# Altium integrated library ON Semi Signal Management Smart Card & SIM Card Interfaces.IntLib: 14 symbols (part 2 of 2)
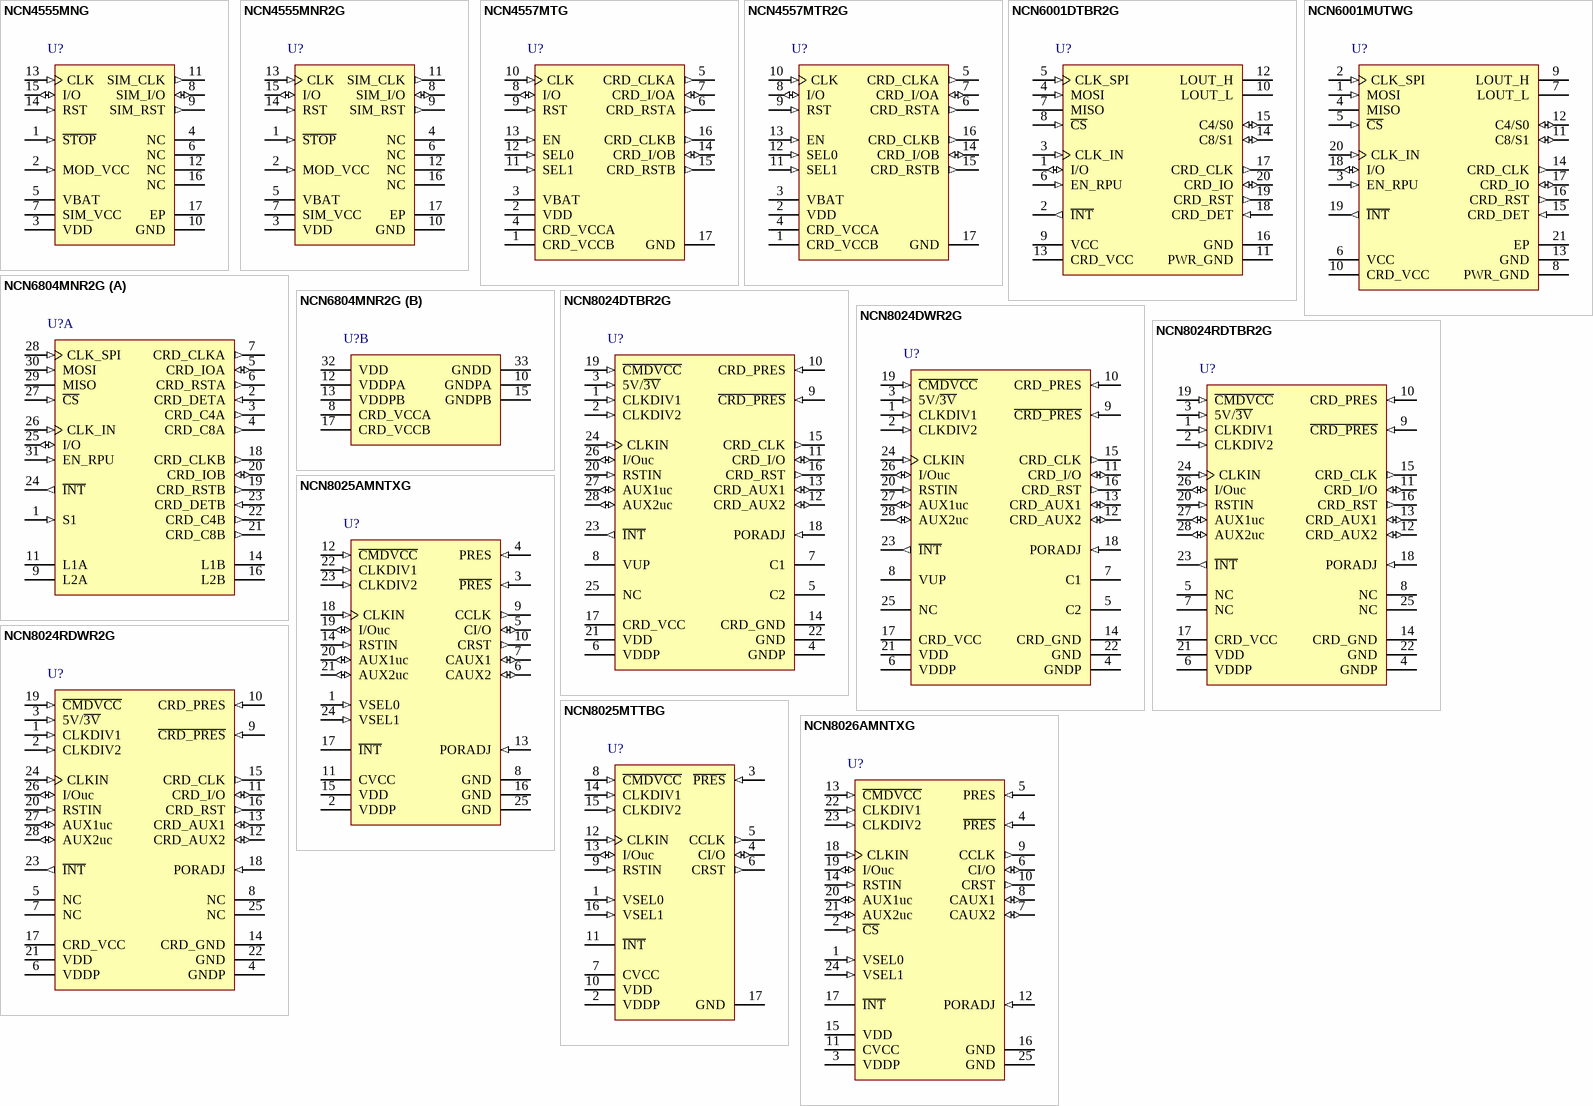
[diagram p1: symbols NCN4555MNG to NCN8026AMNTXG]

## NCN8024DWR2G
designator U?
Smart Card Interface IC, 2.7 to 5.5 V, -40 to 85 degC, 28-Pin SOIC, Pb-Free, Tape and Reel; Manufacturer: On Semiconductor; PartNumber: NCN8024DWR2G; fClock Max (MHz): 18; VCC Max (V): 5.5; VCC Min (V): 2.7; DatasheetVersion: Rev. 4; PackageVersion: Rev. H, 06/2007; PackageReference: SOIC-28-751F-05; PackageDescription: 28-Pin Small Outline Integrated Circuit, Body 17.925 x 7.5 mm, Pitch 1.27 mm; Supplier 1: Digi-Key; Supplier Part Number 1: NCN8024DWR2GOSTR-ND; Supplier 2: Digi-Key; Supplier Part Number 2: NCN8024DWR2GOSCT-ND; Supplier 3: Digi-Key; Supplier Part Number 3: NCN8024DWR2GOSDKR-ND; Supplier 4: Mouser; Supplier Part Number 4: 863-NCN8024DWR2G; Packing: Tape and Reel; RoHS: TRUE; Mounting Technology: Surface Mount; ComponentLink1Description: Manufacturer URL; ComponentLink1URL: http://www.onsemi.com/; ComponentLink2Description: Datasheet; ComponentLink2URL: http://www.onsemi.cn/pub_link/Collateral/NCN8024-D.PDF; ComponentLink3Description: Package Specification; ComponentLink3URL: http://www.onsemi.cn/pub_link/Collateral/751F-05.PDF
footprint ONSC-SOIC-28-751F-05_V (SOIC, 28-Leads, Body 18.1x7.6mm, Pitch 1.27mm)
pins: 1 CLKDIV1 (in) "This pin coupled with CLKDIV2 is used to program the clock frequency division ratio.", 2 CLKDIV2 (in) "This pin coupled with CLKDIV2 is used to program the clock frequency division ratio.", 3 5V/~{3V} (in) "Allows selecting card VCC power supply voltage. CRD_VCC = 5 V when 5V/3\V\ = HIGH or 3 V when 5V/3\V\ = LOW", 4 GNDP (power) "DC/DC Converter Power Supply Ground", 5 C2 "DC/DC Converter Capacitor pin number 2 - A 100 nF capacitor is connected between this pin and pin C1. The capacitor has to feature an ESR lower than 100 mohm", 6 VDDP (power) "DC/DC Converter Power Supply Voltage", 7 C1 "DC/DC Converter Capacitor pin number 1 - A 100 nF capacitor is connected between this pin and pin C2. The capacitor has to feature an ESR lower than 100 mohm", 8 VUP (power) "Charge-pump output - a very low ESR 100 nF capacitor (ESR< 100 mohm) is connected between this pin and GNDP", 9 ~{CRD_PRES} (in) "Card presence pin active (card present) when C\R\D\_\P\R\E\S\ = Low. A built-in debounce timer of about 8 ms is activated when a card is inserted.", 10 CRD_PRES (in) "Card presence pin active (card present) when CRD_PRES = High. A built-in debounce timer of about 8 ms is activated when a card is inserted.", 11 CRD_I/O (io) "This pin handles the connection to the serial I/O (C7) of the card connector. A bi-directional level translator adapts the serial I/O signal between the card and the micro controller. An 11 kohm (typical) pullup resistor to (See Datasheet)", 12 CRD_AUX2 (io) "This pin handles the connection to the chip card’s serial auxiliary AUX2 I/O pin (C8). A bi-directional level translator adapts the serial I/O signal between the card and the micro controller. An 11 kohm (typical) pullu(See Datasheet)", 13 CRD_AUX1 (io) "This pin handles the connection to the chip card’s serial auxiliary AUX1 I/O pin (C4). A bi-directional level translator adapts the serial I/O signal between the card and the micro controller. An 11 kohm (typical) pullu(See Datasheet)", 14 CRD_GND (power) "Card Ground", 15 CRD_CLK (out) "This pin is connected to the CLOCK card connector’s pin (Chip card’s pin C3). The Clock signal comes from the CLKIN input through clock dividers and level shifter.", 16 CRD_RST (out) "This pin is connected to the chip card’s RESET pin (C2) through the card connector. A level translator adapts the external Reset (RSTIN) signal to the smart card.", 17 CRD_VCC (power) "This pin is connected to the smart card power supply pin. An internal DC/DC converter is programmable using the pin 5V/3\V\ to supply either 5 V or 3 V output voltage. An external distributed ceramic capacitor (200 nF + 330 (See Datasheet)", 18 PORADJ (in) "Power-on reset threshold adjustment input pin for changing the reset threshold with an external resistor power divider. Recommended to be connected to ground when unused.", 19 ~{CMDVCC} (in) "Command VCC pin. Activation sequence Enable/Disable pin (active Low). The activation sequence is enabled by toggling C\M\D\V\C\C\ High to Low and when a card is present.", 20 RSTIN (in) "This Reset input connected to the host and referred to VDD (microcontroller side), is connected to the smart card Reset pin through the internal level shifter which translates the level according to the CRD_VCC programmed (See Datasheet)", 21 VDD (power) "This pin is connected to the system controller power supply. It configures the level shifter input stage to accept the signals coming from the controller. A 0.1 uF capacitor shall be used to bypass the power supply voltage. (See Datasheet)", 22 GND (power) "Ground", 23 ~{INT} (out) "The interrupt request is activated LOW on this pin. This is enabled when a card is present and the card presence is detected by CRD_PRES or C\R\D\_\P\R\E\S\ pins. Similarly an interrupt is generated when CRD_VCC is (See Datasheet)", 24 CLKIN (in) "Clock Input for External Clock", 25 NC "Unconnected", 26 I/Ouc (io) "This pin is connected to an external micro-controller. A bi-directional level translator adapts the serial I/O signal between the smart card and the external controller. A built-in constant 11 kohm (typical) resistor (See Datasheet)", 27 AUX1uc (io) "This pin is connected to an external micro-controller. A bi-directional level translator adapts the serial C4 signal between the smart card and the external controller. A built-in constant 11 kohm (typical) resistor provides (See Datasheet)", 28 AUX2uc (io) "This pin is connected to an external micro-controller. A bi-directional level translator adapts the serial C8 signal between the smart card and the external controller. A built-in constant 11 kohm (typical) resistor provides (See Datasheet)"

## NCN8024RDTBR2G
designator U?
Smart Card Interface IC, 2.7 to 5.5 V, -40 to 85 degC, 28-Pin TSSOP, Pb-Free, Tape and Reel; Manufacturer: On Semiconductor; PartNumber: NCN8024RDTBR2G; fClock Max (MHz): 27; VCC Max (V): 5.5; VCC Min (V): 2.7; DatasheetVersion: Rev. 1; PackageVersion: Rev. A, 10/2011; PackageReference: TSSOP-28-948AA; PackageDescription: 28-Pin Small Outline Package, Body 9.7 x 4.4 mm, Pitch 0.65 mm; Packing: Tape and Reel; RoHS: TRUE; Mounting Technology: Surface Mount; ComponentLink1Description: Manufacturer URL; ComponentLink1URL: http://www.onsemi.com/; ComponentLink2Description: Datasheet; ComponentLink2URL: http://www.onsemi.cn/pub_link/Collateral/NCN8024R-D.PDF; ComponentLink3Description: Package Specification; ComponentLink3URL: http://www.onsemi.cn/pub_link/Collateral/948AA.PDF
footprint ONSC-TSSOP-28-948AA_V (SOP, 28-Leads, Body 9.8x4.5mm, Pitch 0.65mm)
pins: 1 CLKDIV1 (in) "This pin coupled with CLKDIV2 is used to program the clock frequency division ratio", 2 CLKDIV2 (in) "This pin coupled with CLKDIV1 is used to program the clock frequency division ratio", 3 5V/~{3V} (in) "Allows selecting card VCC power supply voltage. CRD_VCC = 5 V when 5V/3\V\ = HIGH or 3 V when 5V/3\V\ = LOW", 4 GNDP (power) "Regulator Power Supply Ground", 5 NC "Not Connected", 6 VDDP (power) "Regulator Power Supply", 7 NC "Not Connected", 8 NC "Not Connected", 9 ~{CRD_PRES} (in) "Card presence pin active (card present) when CRD_PRES = Low. A built-in debounce timer of about 8 ms is activated when a card is inserted. Convenient for Normally Open (NO) smart card connector.", 10 CRD_PRES (in) "Card presence pin active (card present) when CRD_PRES = High. A built-in debounce timer of about 8 ms is activated when a card is inserted. Convenient for Normally Closed (NC) smart card connector.", 11 CRD_I/O (io) "This pin handles the connection to the serial I/O (C7) of the card connector. A bi-directional level translator adapts the serial I/O signal between the card and the micro controller. An 11 kohm (typical) pullup resistor to (See Datasheet)", 12 CRD_AUX2 (io) "This pin handles the connection to the chip card’s serial auxiliary AUX2 I/O pin (C8). A bi-directional level translator adapts the serial I/O signal between the card and the micro controller. An 11 kohm (typical) pullu(See Datasheet)", 13 CRD_AUX1 (io) "This pin handles the connection to the chip card’s serial auxiliary AUX1 I/O pin (C4). A bi-directional level translator adapts the serial I/O signal between the card and the micro controller. An 11 kohm (typical) pullu(See Datasheet)", 14 CRD_GND (power) "Card Ground", 15 CRD_CLK (out) "This pin is connected to the CLOCK card connector’s pin (Chip card’s pin C3). The Clock signal comes from the CLKIN input through clock dividers and level shifter.", 16 CRD_RST (out) "This pin is connected to the chip card’s RESET pin (C2) through the card connector. A level translator adapts the external Reset (RSTIN) signal to the smart card.", 17 CRD_VCC (power) "This pin is connected to the smart card power supply pin. An internal DC/DC converter is programmable using the pin 5V/3\V\ to supply either 5 V or 3 V output voltage. An external distributed ceramic capacitor ranging from (See Datasheet)", 18 PORADJ (in) "Power-on reset threshold adjustment input pin for changing the reset threshold with an external resistor power divider. Recommended to be connected to ground when unused.", 19 ~{CMDVCC} (in) "Command VCC pin. Activation sequence Enable/Disable pin (active Low). The activation sequence is enabled by toggling C\M\D\V\C\C\ High to Low and when a card is present.", 20 RSTIN (in) "This Reset input connected to the host and referred to VDD (microcontroller side), is connected to the smart card Reset pin through the internal level shifter which translates the level according to the CRD_VCC programmed (See Datasheet)", 21 VDD (power) "This pin is connected to the system controller power supply. It configures the level shifter input stage to accept the signals coming from the controller. A 0.1 uF capacitor shall be used to bypass the power supply voltage. (See Datasheet)", 22 GND (power) "Ground", 23 ~{INT} (out) "The interrupt request is activated LOW on this pin. This is enabled when a card is present and the card presence is detected by CRD_PRES or C\R\D\_\P\R\E\S\ pins. Similarly an interrupt is generated when CRD_VCC is (See Datasheet)", 24 CLKIN (in) "Clock Input for External Clock", 25 NC "Not Connected", 26 I/Ouc (io) "This pin is connected to an external micro-controller. A bi-directional level translator adapts the serial I/O signal between the smart card and the external controller. A built-in constant 11 kohm (typical) resistor (See Datasheet)", 27 AUX1uc (io) "This pin is connected to an external micro-controller. A bi-directional level translator adapts the serial C4 signal between the smart card and the external controller. A built-in constant 11 kohm (typical) resistor provides (See Datasheet)", 28 AUX2uc (io) "This pin is connected to an external micro-controller. A bi-directional level translator adapts the serial C8 signal between the smart card and the external controller. A built-in constant 11 kohm (typical) resistor provides (See Datasheet)"

## NCN8024RDWR2G
designator U?
Smart Card Interface IC, 2.7 to 5.5 V, -40 to 85 degC, 28-Pin SOIC, Pb-Free, Tape and Reel; Manufacturer: On Semiconductor; PartNumber: NCN8024RDWR2G; fClock Max (MHz): 27; VCC Max (V): 5.5; VCC Min (V): 2.7; DatasheetVersion: Rev. 1; PackageVersion: Rev. H, 06/2007; PackageReference: SOIC-28-751F-05; PackageDescription: 28-Pin Small Outline Integrated Circuit, Body 17.925 x 7.5 mm, Pitch 1.27 mm; Supplier 1: Digi-Key; Supplier Part Number 1: NCN8024RDWR2G-ND; Supplier 2: Mouser; Supplier Part Number 2: 863-NCN8024RDWR2G; Packing: Tape and Reel; RoHS: TRUE; Mounting Technology: Surface Mount; ComponentLink1Description: Manufacturer URL; ComponentLink1URL: http://www.onsemi.com/; ComponentLink2Description: Datasheet; ComponentLink2URL: http://www.onsemi.cn/pub_link/Collateral/NCN8024R-D.PDF; ComponentLink3Description: Package Specification; ComponentLink3URL: http://www.onsemi.cn/pub_link/Collateral/751F-05.PDF
footprint ONSC-SOIC-28-751F-05_V (SOIC, 28-Leads, Body 18.1x7.6mm, Pitch 1.27mm)
pins: 1 CLKDIV1 (in) "This pin coupled with CLKDIV2 is used to program the clock frequency division ratio", 2 CLKDIV2 (in) "This pin coupled with CLKDIV1 is used to program the clock frequency division ratio", 3 5V/~{3V} (in) "Allows selecting card VCC power supply voltage. CRD_VCC = 5 V when 5V/3\V\ = HIGH or 3 V when 5V/3\V\ = LOW", 4 GNDP (power) "Regulator Power Supply Ground", 5 NC "Not Connected", 6 VDDP (power) "Regulator Power Supply", 7 NC "Not Connected", 8 NC "Not Connected", 9 ~{CRD_PRES} (in) "Card presence pin active (card present) when CRD_PRES = Low. A built-in debounce timer of about 8 ms is activated when a card is inserted. Convenient for Normally Open (NO) smart card connector.", 10 CRD_PRES (in) "Card presence pin active (card present) when CRD_PRES = High. A built-in debounce timer of about 8 ms is activated when a card is inserted. Convenient for Normally Closed (NC) smart card connector.", 11 CRD_I/O (io) "This pin handles the connection to the serial I/O (C7) of the card connector. A bi-directional level translator adapts the serial I/O signal between the card and the micro controller. An 11 kohm (typical) pullup resistor to (See Datasheet)", 12 CRD_AUX2 (io) "This pin handles the connection to the chip card’s serial auxiliary AUX2 I/O pin (C8). A bi-directional level translator adapts the serial I/O signal between the card and the micro controller. An 11 kohm (typical) pullu(See Datasheet)", 13 CRD_AUX1 (io) "This pin handles the connection to the chip card’s serial auxiliary AUX1 I/O pin (C4). A bi-directional level translator adapts the serial I/O signal between the card and the micro controller. An 11 kohm (typical) pullu(See Datasheet)", 14 CRD_GND (power) "Card Ground", 15 CRD_CLK (out) "This pin is connected to the CLOCK card connector’s pin (Chip card’s pin C3). The Clock signal comes from the CLKIN input through clock dividers and level shifter.", 16 CRD_RST (out) "This pin is connected to the chip card’s RESET pin (C2) through the card connector. A level translator adapts the external Reset (RSTIN) signal to the smart card.", 17 CRD_VCC (power) "This pin is connected to the smart card power supply pin. An internal DC/DC converter is programmable using the pin 5V/3\V\ to supply either 5 V or 3 V output voltage. An external distributed ceramic capacitor ranging from (See Datasheet)", 18 PORADJ (in) "Power-on reset threshold adjustment input pin for changing the reset threshold with an external resistor power divider. Recommended to be connected to ground when unused.", 19 ~{CMDVCC} (in) "Command VCC pin. Activation sequence Enable/Disable pin (active Low). The activation sequence is enabled by toggling C\M\D\V\C\C\ High to Low and when a card is present.", 20 RSTIN (in) "This Reset input connected to the host and referred to VDD (microcontroller side), is connected to the smart card Reset pin through the internal level shifter which translates the level according to the CRD_VCC programmed (See Datasheet)", 21 VDD (power) "This pin is connected to the system controller power supply. It configures the level shifter input stage to accept the signals coming from the controller. A 0.1 uF capacitor shall be used to bypass the power supply voltage. (See Datasheet)", 22 GND (power) "Ground", 23 ~{INT} (out) "The interrupt request is activated LOW on this pin. This is enabled when a card is present and the card presence is detected by CRD_PRES or C\R\D\_\P\R\E\S\ pins. Similarly an interrupt is generated when CRD_VCC is (See Datasheet)", 24 CLKIN (in) "Clock Input for External Clock", 25 NC "Not Connected", 26 I/Ouc (io) "This pin is connected to an external micro-controller. A bi-directional level translator adapts the serial I/O signal between the smart card and the external controller. A built-in constant 11 kohm (typical) resistor (See Datasheet)", 27 AUX1uc (io) "This pin is connected to an external micro-controller. A bi-directional level translator adapts the serial C4 signal between the smart card and the external controller. A built-in constant 11 kohm (typical) resistor provides (See Datasheet)", 28 AUX2uc (io) "This pin is connected to an external micro-controller. A bi-directional level translator adapts the serial C8 signal between the smart card and the external controller. A built-in constant 11 kohm (typical) resistor provides (See Datasheet)"

## NCN8025AMNTXG
designator U?
Compact Smart Card Interface IC, 2.7 to 5.5 V, -40 to 85 degC, 24-Pin QFN, Pb-Free, Tape and Reel; Manufacturer: On Semiconductor; PartNumber: NCN8025AMNTXG; fClock Max (MHz): 27; VCC Max (V): 5.5; VCC Min (V): 2.7; DatasheetVersion: Rev. 4; PackageVersion: Rev. A, 07/2008; PackageReference: QFN-24-485L-01_A; PackageDescription: 24-Pin Quad Flat No-Lead, Body 4 x 4 mm, Pitch 0.5 mm; Supplier 1: Digi-Key; Supplier Part Number 1: NCN8025AMNTXGOSTR-ND; Supplier 2: Digi-Key; Supplier Part Number 2: NCN8025AMNTXGOSCT-ND; Supplier 3: Digi-Key; Supplier Part Number 3: NCN8025AMNTXGOSDKR-ND; Supplier 4: Mouser; Supplier Part Number 4: 863-NCN8025AMNTXG; Packing: Tape and Reel; RoHS: TRUE; Mounting Technology: Surface Mount; ComponentLink1Description: Manufacturer URL; ComponentLink1URL: http://www.onsemi.com/; ComponentLink2Description: Datasheet; ComponentLink2URL: http://www.onsemi.cn/pub_link/Collateral/NCN8025-D.PDF; ComponentLink3Description: Package Specification; ComponentLink3URL: http://www.onsemi.com/pub_link/Collateral/NB6L295-D.PDF
footprint ONSC-QFN-24-485L-01_A_N (QFN, 24-Leads, Body 4x4mm, Pitch 0.5mm, Thermal Pad 2.8x2.8mm, IPC Medium Density)
footprint ONSC-QFN-24-485L-01_A_L (QFN, 24-Leads, Body 4x4mm, Pitch 0.5mm, Thermal Pad 2.8x2.8mm, IPC High Density)
footprint ONSC-QFN-24-485L-01_A_M (QFN, 24-Leads, Body 4x4mm, Pitch 0.5mm, Thermal Pad 2.8x2.8mm, IPC Low Density)
pins: 1 VSEL0 (in) "Allows selecting card VCC power supply voltage mode (5V/3\V\ or 1.8V/3\V\) VSEL0 = Low; CVCC = 5 V when VSEL1 = High or 3 V when VSEL1 = Low VSEL0 = High; CVCC = 1.8 V when VSEL1 = High or 3 V when VSEL1 = Low", 2 VDDP (power) "Regulator power supply.", 3 ~{PRES} (in) "Card presence pin active (card present) when P\R\E\S\ = Low. A built-in debounce timer of about 8 ms is activated when a card is inserted. Convenient for Normally Open (NO) Smart card connector", 4 PRES (in) "Card presence pin active (card present) when PRES = High. A built-in debounce timer of about 8 ms is activated when a card is inserted. Convenient for Normally Closed (NC) smart card connector.", 5 CI/O (io) "This pin handles the connection to the serial I/O (C7) of the card connector. A bi-directional level translator adapts the serial I/O signal between the card and the micro controller. A 11 kohm (typical) pull up resisto(See Datasheet)", 6 CAUX2 (io) "This pin handles the connection to the chip card’s serial auxiliary AUX2 I/O pin (C8). A bi-directional level translator adapts the serial I/O signal between the card and the micro controller. A 11 kohm (typical) pull(See Datasheet)", 7 CAUX1 (io) "This pin handles the connection to the chip card’s serial auxiliary AUX1 I/O pin (C4). A bi-directional level translator adapts the serial I/O signal between the card and the micro controller. A 11 kohm (typical) pull(See Datasheet)", 8 GND (power) "Card Ground", 9 CCLK (out) "This pin is connected to the CLOCK card connector’s pin (Chip card’s pin C3). The Clock signal comes from the CLKIN input through clock dividers and level shifter.", 10 CRST (out) "This pin is connected to the chip card’s RESET pin (C2) through the card connector. A level translator adapts the external Reset (RSTIN) signal to the smart card.", 11 CVCC (power) "This pin is connected to the smart card power supply pin (C1). An internal low dropout regulator is programmable using the pins VSEL0 and VSEL1 to supply either 5 V or 3 V or 1.8 V output voltage. An external distributed (See Datasheet)", 12 ~{CMDVCC} (in) "Command VCC pin. Activation sequence Enable/Disable pin (active Low). The activation sequence is enabled by toggling C\M\D\V\C\C\ High to Low and when a card is present", 13 PORADJ (in) "Power-on reset threshold adjustment input pin for changing the reset threshold (VDD UVLO threshold) thanks to an external resistor power divider. Needs to be connected to ground when unused.", 14 RSTIN (in) "This Reset input connected to the host and referred to VDD (microcontroller side), is connected to the smart card Reset pin through the internal level shifter which translates the level according to the CVCC programmed value.", 15 VDD (power) "This pin is connected to the system controller power supply. It configures the level shifter input stage to accept the signals coming from the controller. A 0.1 uF decoupling capacitor shall be used. When VDD is below 2.30 V (See Datasheet)", 16 GND (power) "Ground", 17 ~{INT} (oc) "The interrupt request is activated LOW on this pin. This is enabled when a card is present and the card presence is detected by P\R\E\S\ or PRES pins. Similarly an interrupt is generated when CVCC is overloaded. Inverter (See Datasheet)", 18 CLKIN (in) "Clock Input for External Clock", 19 I/Ouc (io) "This pin is connected to an external micro-controller. A bi-directional level translator adapts the serial I/O signal between the smart card and the external controller. A built-in constant 11 kohm (typical) res(See Datasheet)", 20 AUX1uc (io) "This pin is connected to an external micro-controller. A bi-directional level translator adapts the serial C4 signal between the smart card and the external controller. A built-in constant 11 kohm (typical) res(See Datasheet)", 21 AUX2uc (io) "This pin is connected to an external micro-controller. A bi-directional level translator adapts the serial C8 signal between the smart card and the external controller. A built-in constant 11 kohm (typical) res(See Datasheet)", 22 CLKDIV1 (in) "This pin coupled with CLKDIV2 is used to program the clock frequency division ratio (Table 2).", 23 CLKDIV2 (in) "This pin coupled with CLKDIV1 is used to program the clock frequency division ratio (Table 2).", 24 VSEL1 (in) "Allows selecting card VCC power supply voltage. VSEL0 = Low: CVCC = 5 V when VSEL1 = High or 3 V when VSEL1 = Low. VSEL0 = High: CVCC = 1.8 V when VSEL1 = High or 3 V when VSEL1 = Low.", 25 GND (power) "Regulator Power Supply Ground"

## NCN8025MTTBG
designator U?
Compact Smart Card Interface IC, 2.7 to 5.5 V, -40 to 85 degC, 16-Pin QFN, Pb-Free, Tape and Reel; Manufacturer: On Semiconductor; PartNumber: NCN8025MTTBG; fClock Max (MHz): 27; VCC Max (V): 5.5; VCC Min (V): 2.7; DatasheetVersion: Rev. 4; PackageVersion: Rev. O, 09/2004; PackageReference: QFN-16-488AK-01; PackageDescription: 16-Pin Quad Flat No-Lead, Body 3 x 3 mm, Pitch 0.5 mm; Supplier 1: Digi-Key; Supplier Part Number 1: NCN8025MTTBGOSTR-ND; Supplier 2: Digi-Key; Supplier Part Number 2: NCN8025MTTBGOSCT-ND; Supplier 3: Digi-Key; Supplier Part Number 3: NCN8025MTTBGOSDKR-ND; Supplier 4: Newark; Supplier Part Number 4: 65T1417; Supplier 5: Mouser; Supplier Part Number 5: 863-NCN8025MTTBG; Packing: Tape and Reel; RoHS: TRUE; Mounting Technology: Surface Mount; ComponentLink1Description: Manufacturer URL; ComponentLink1URL: http://www.onsemi.com/; ComponentLink2Description: Datasheet; ComponentLink2URL: http://www.onsemi.cn/pub_link/Collateral/NCN8025-D.PDF; ComponentLink3Description: Package Specification; ComponentLink3URL: http://www.onsemi.cn/pub_link/Collateral/488AK.PDF
footprint ONSC-QFN-16-488AK-01_N (QFN, 16-Leads, Body 3x3mm, Pitch 0.5mm, Thermal Pad 1.75x1.75mm, IPC Medium Density)
footprint ONSC-QFN-16-488AK-01_L (QFN, 16-Leads, Body 3x3mm, Pitch 0.5mm, Thermal Pad 1.75x1.75mm, IPC High Density)
footprint ONSC-QFN-16-488AK-01_M (QFN, 16-Leads, Body 3x3mm, Pitch 0.5mm, Thermal Pad 1.75x1.75mm, IPC Low Density)
pins: 1 VSEL0 (in) "Allows selecting card VCC power supply voltage mode (5V/3\V\ or 1.8V/3\V\) VSEL0 = Low; CVCC = 5 V when VSEL1 = High or 3 V when VSEL1 = Low VSEL0 = High; CVCC = 1.8 V when VSEL1 = High or 3 V when VSEL1 = Low", 2 VDDP (power) "Regulator power supply.", 3 ~{PRES} (in) "Card presence pin active (card present) when P\R\E\S\ = Low. A built-in debounce timer of about 8 ms is activated when a card is inserted. Convenient for Normally Open (NO) Smart card connector", 4 CI/O (io) "This pin handles the connection to the serial I/O (C7) of the card connector. A bi-directional level translator adapts the serial I/O signal between the card and the micro controller. A 11 kohm (typical) pull up resisto(See Datasheet)", 5 CCLK (out) "This pin is connected to the CLOCK card connector’s pin (Chip card’s pin C3). The Clock signal comes from the CLKIN input through clock dividers and level shifter.", 6 CRST (out) "This pin is connected to the chip card’s RESET pin (C2) through the card connector. A level translator adapts the external Reset (RSTIN) signal to the smart card.", 7 CVCC (power) "This pin is connected to the smart card power supply pin (C1). An internal low dropout regulator is programmable using the pins VSEL0 and VSEL1 to supply either 5 V or 3 V or 1.8 V output voltage. An external distributed (See Datasheet)", 8 ~{CMDVCC} (in) "Command VCC pin. Activation sequence Enable/Disable pin (active Low). The activation sequence is enabled by toggling C\M\D\V\C\C\ High to Low and when a card is present", 9 RSTIN (in) "This Reset input connected to the host and referred to VDD (microcontroller side), is connected to the smart card Reset pin through the internal level shifter which translates the level according to the CVCC programmed value.", 10 VDD (power) "This pin is connected to the system controller power supply. It configures the level shifter input stage to accept the signals coming from the controller. A 0.1 uF decoupling capacitor shall be used. When VDD is below 2.30 V (See Datasheet)", 11 ~{INT} (oc) "The interrupt request is activated LOW on this pin. This is enabled when a card is present and the card presence is detected by P\R\E\S\ or PRES pins. Similarly an interrupt is generated when CVCC is overloaded. Inverter (See Datasheet)", 12 CLKIN (in) "Clock Input for External Clock", 13 I/Ouc (io) "This pin is connected to an external micro-controller. A bi-directional level translator adapts the serial I/O signal between the smart card and the external controller. A built-in constant 11 kohm (typical) res(See Datasheet)", 14 CLKDIV1 (in) "This pin coupled with CLKDIV2 is used to program the clock frequency division ratio (Table 2).", 15 CLKDIV2 (in) "This pin coupled with CLKDIV1 is used to program the clock frequency division ratio (Table 2).", 16 VSEL1 (in) "Allows selecting card VCC power supply voltage. VSEL0 = Low: CVCC = 5 V when VSEL1 = High or 3 V when VSEL1 = Low. VSEL0 = High: CVCC = 1.8 V when VSEL1 = High or 3 V when VSEL1 = Low.", 17 GND (power) "Regulator Power Supply Ground"

## NCN8026AMNTXG
designator U?
Compact Low Power Smart Card Interface IC, 1.6 to 5.5 V, -40 to 85 degC, 24-Pin QFN, Pb-Free, Tape and Reel; Manufacturer: On Semiconductor; PartNumber: NCN8026AMNTXG; fClock Max (MHz): 27; VCC Max (V): 5.5; VCC Min (V): 1.6; DatasheetVersion: Rev. 2; PackageVersion: Rev. B, 06/2012; PackageReference: QFN-24-485L; PackageDescription: 24-Pin Quad Flat No-Lead, Body 4 x 4 mm, Pitch 0.5 mm; Supplier 1: Digi-Key; Supplier Part Number 1: NCN8026AMNTXGOSTR-ND; Supplier 2: Digi-Key; Supplier Part Number 2: NCN8026AMNTXGOSCT-ND; Supplier 3: Digi-Key; Supplier Part Number 3: NCN8026AMNTXGOSDKR-ND; Supplier 4: Farnell; Supplier Part Number 4: 2382437; Supplier 5: Newark; Supplier Part Number 5: 37X6668; Supplier 6: Newark; Supplier Part Number 6: 72W2171; Supplier 7: Mouser; Supplier Part Number 7: 863-NCN8026AMNTXG; Packing: Tape and Reel; RoHS: TRUE; Mounting Technology: Surface Mount; ComponentLink1Description: Manufacturer URL; ComponentLink1URL: http://www.onsemi.com/; ComponentLink2Description: Datasheet; ComponentLink2URL: http://www.onsemi.cn/pub_link/Collateral/NCN8026A-D.PDF; ComponentLink3Description: Package Specification; ComponentLink3URL: http://www.onsemi.cn/pub_link/Collateral/485L-01.PDF
footprint ONSC-QFN-24-485L_V (QFN, 24-Leads, Body 4x4mm, Pitch 0.5mm, Thermal Pad 2.9x2.9mm)
pins: 1 VSEL0 (in) "Allows selecting card VCC power supply voltage mode (5V/3\V\ or 1.8V/3\V\) VSEL0 = Low; CVCC = 5 V when VSEL1 = High or 3 V when VSEL1 = Low VSEL0 = High; CVCC = 1.8 V when VSEL1 = High or 3 V when VSEL1 = Low", 2 ~{CS} (in) "When C\S\ is Low, the corresponding chip is selected and the control and signal pins are configured normally. When C\S\ is set High, C\M\D\V\C\C\, VSEL0, VSEL1, CLKDIV1, CLKDIV2 and RSTIN are latched. IOuc, AUX1uc, and (See Datasheet)", 3 VDDP (power) "Regulator power supply. When VDDP is below 2.5 V typical the card pins are disabled.", 4 ~{PRES} (in) "Card presence pin active (card present) when P\R\E\S\ = Low. A built-in debounce timer of about 8 ms is activated when a card is inserted. Convenient for Normally Open (NO) Smart card connector.", 5 PRES (in) "Card presence pin active (card present) when PRES = High. A built-in debounce timer of about 8 ms is activated when a card is inserted. Convenient for Normally Closed (NC) smart card connector", 6 CI/O (io) "This pin handles the connection to the serial I/O (C7) of the card connector. A bi-directional level translator adapts the serial I/O signal between the card and the micro controller. A 11 kohm (typical) pull up resisto(See Datasheet)", 7 CAUX2 (io) "This pin handles the connection to the chip card’s serial auxiliary AUX2 I/O pin (C8). A bi-directional level translator adapts the serial I/O signal between the card and the micro controller. A 11 kohm (typical) pull(See Datasheet)", 8 CAUX1 (io) "This pin handles the connection to the chip card’s serial auxiliary AUX1 I/O pin (C4). A bi-directional level translator adapts the serial I/O signal between the card and the micro controller. A 11 kohm (typical) pull(See Datasheet)", 9 CCLK (out) "This pin is connected to the CLOCK card connector’s pin (Chip card’s pin C3). The Clock signal comes from the CLKIN input through clock dividers and level shifter.", 10 CRST (out) "This pin is connected to the chip card’s RESET pin (C2) through the card connector. A level translator adapts the external Reset (RSTIN) signal to the smart card", 11 CVCC (power) "This pin is connected to the smart card power supply pin (C1). An internal low dropout regulator is programmable using the pins VSEL0 and VSEL1 to supply either 5 V or 3 V or 1.8 V output voltage. An external distributed (See Datasheet)", 12 PORADJ (in) "Power-on reset threshold adjustment input pin for changing the reset threshold (VDD UVLO threshold) thanks to an external resistor power divider. Needs to be connected to ground when unused.", 13 ~{CMDVCC} (in) "Command VCC pin. Activation sequence Enable/Disable pin (active Low). The activation sequence is enabled by toggling C\M\D\V\C\C\ High to Low and when a card is present.", 14 RSTIN (in) "This Reset input connected to the host and referred to VDD (microcontroller side), is connected to the smart card Reset pin through the internal level shifter which translates the level according to the CVCC programmed value.", 15 VDD (power) "This pin is connected to the system controller power supply. It configures the level shifter input stage to accept the signals coming from the controller. A 0.1 uF decoupling capacitor shall be used. When VDD is below 1.45 V (See Datasheet)", 16 GND (power) "Ground", 17 ~{INT} (oc) "The interrupt request is activated LOW on this pin. This is enabled when a card is present and the card presence is detected by P\R\E\S\ or PRES pins. Similarly an interrupt is generated when CVCC is overloaded. Inverter (See Datasheet)", 18 CLKIN (in) "Clock Input for External Clock", 19 I/Ouc (io) "This pin is connected to an external micro-controller. A bi-directional level translator adapts the serial I/O signal between the smart card and the external controller. A built-in constant 11 kohm (typical) res(See Datasheet)", 20 AUX1uc (io) "This pin is connected to an external micro-controller. A bi-directional level translator adapts the serial C4 signal between the smart card and the external controller. A built-in constant 11 kohm (typical) res(See Datasheet)", 21 AUX2uc (io) "This pin is connected to an external micro-controller. A bi-directional level translator adapts the serial C8 signal between the smart card and the external controller. A built-in constant 11 kohm (typical) res(See Datasheet)", 22 CLKDIV1 (in) "This pin coupled with CLKDIV2 is used to program the clock frequency division ratio (Table 2).", 23 CLKDIV2 (in) "This pin coupled with CLKDIV1 is used to program the clock frequency division ratio (Table 2).", 24 VSEL1 (in) "Allows selecting card VCC power supply voltage. VSEL0 = Low: CVCC = 5 V when VSEL1 = High or 3 V when VSEL1 = Low. VSEL0 = High: CVCC = 1.8 V when VSEL1 = High or 3 V when VSEL1 = Low.", 25 GND (power) "Regulator Power Supply Ground"